# Altium schematic symbol library Eis_Lib.SchLib: 10 symbols
Pins are listed as number, name and electrical type; pins without a type are passive.

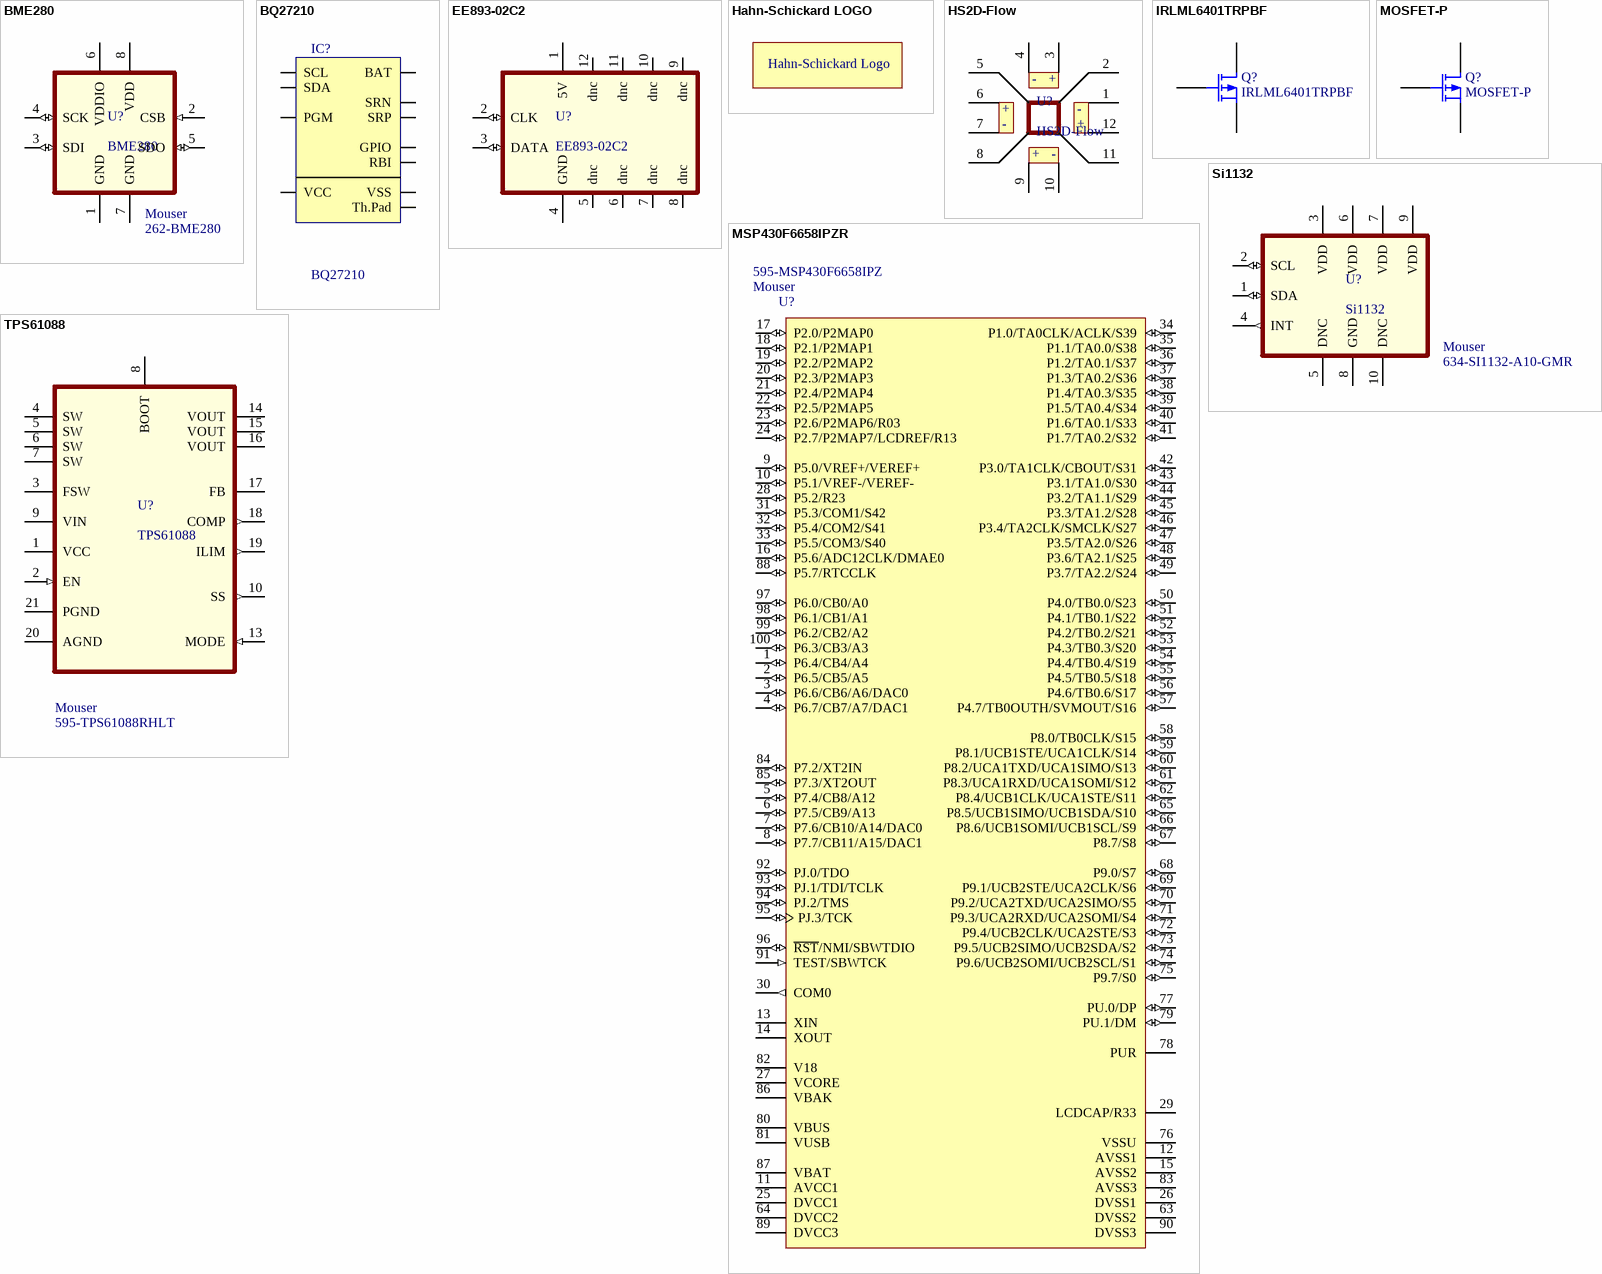
[diagram p0: symbols BME280 to TPS61088]

## BME280
designator U?  Supplier 1: Mouser  Supplier Part Number 1: 262-BME280
Bosch, Druck & Feuchte-Sensor, I2C / SPI
footprint BME280 (8 pin Druck/Feuchte/Temp)
pins: 1 GND (power), 2 CSB (in), 3 SDI (io), 4 SCK (io), 5 SDO (io), 6 VDDIO (power), 7 GND (power), 8 VDD (power)

## BQ27210
designator IC?
i-Ion AND Li-Pol BATTERY GAS GAUGE IC FOR PORTABLE APPLICATIONS; 08_Lieferanten_Nummer: 296-21511-1-ND; 07_Lieferant: Digi-Key; 05_Datasheet_Link_Lokal: Path and File; 10_Erstell_Datum: DD.MM.YYYY; 09_Ersteller: HSG Name; 02_Herstellerbezeichnung: ka; 03_Hersteller_Link: Link; 04_Datasheet_Link: Datasheet; 06 Footprint_Link_Lokal: Path and File
footprint TI-DRK-PVSON (RI DRK, 10+1-Leads, Body 4.15x3.15mm, Pitch 0.5mm)
pins: 1 RBI, 2 VCC (power), 3 VSS (power), 4 SCL, 5 SDA, 6 BAT, 7 SRN, 8 SRP, 9 GPIO, 10 PGM, 11 Th.Pad (power)

## EE893-02C2
designator U?
CO2-Sensor; I²C-Interface,
footprint EE893 (CO2-Sensor 22x45x15.3mm)
pins: 1 5V (power), 2 CLK (io), 3 DATA (io), 4 GND (power), 5 dnc, 6 dnc, 7 dnc, 8 dnc, 9 dnc, 10 dnc, 11 dnc, 12 dnc

## Hahn-Schickard LOGO
designator LOGO  (value not drawn)
Hahn-Schickard Logo als Footprint
footprint Hahn-Schickard-LOGO_klein
footprint Hahn-Schickard-LOGO_gross
text: Hahn-Schickard Logo

## HS2D-Flow
designator U?
2d Strömungssensor Hahn-Schickard
footprint Bond_Flow_12p (Chip in PCB-Tasche buendig einkleben (600µm tiefe Fräsung))
pins: 1 TPn-, 2 HZ_nw, 3 TPw+, 4 TPw-, 5 HZ_sw, 6 TPs+, 7 TPs-, 8 HZ_so, 9 TPo+, 10 TPo-, 11 HZ_no, 12 TPn+
text: -; +

## IRLML6401TRPBF
designator Q?
P-Channel MOSFET; Published: 8-Jun-2000; LatestRevisionDate: 17-Jul-2002; LatestRevisionNote: Re-released for DXP Platform.; PackageVersion: 1995/1996; PackageReference: E3; Publisher: Altium Limited
footprint SOT23_N (SOT23, 3-Leads, Body 2.9x1.3mm, Pitch 0.95mm, Lead Span 2.3mm, IPC Medium Density)
pins: 1 G, 2 S, 3 D

## MOSFET-P
designator Q?
P-Channel MOSFET; Published: 8-Jun-2000; LatestRevisionDate: 17-Jul-2002; LatestRevisionNote: Re-released for DXP Platform.; PackageVersion: 1995/1996; PackageReference: E3; Publisher: Altium Limited
footprint SOT223-4N (SOT223, 4-Leads, Body 6.5x3.5mm, Pitch 2.3mm, Lead Span 7mm, IPC Medium Density)
pins: 1 G, 2 D, 3 S

## MSP430F6658IPZR
designator U?  Supplier 1: Mouser  Supplier Part Number 1: 595-MSP430F6658IPZ
20 MHz Mixed Signal Microcontroller with 256 KB Flash, 16384 B SRAM and 74 GPIOs, -40 to 85 degC, 100-pin QFP (PZ), Green (RoHS & no Sb/Br); Manufacturer: Texas Instruments; PartNumber: MSP430F6638IPZR; ADC: 12-bit SAR; ADC Channels: 16; Brown Out Reset: Yes; DAC: 2; DMA: 3; Flash(KB): 256; Frequency(MHz): 20; GPIO: 74; Multiplier: 32x32; Real-Time Clock: Yes, with battery backup; SRAM(B): 16384; SubFamily: 6 Series with LCD; Timers - 16-bit: 4; USB: 1; DatasheetVersion: SLAS566C; PackageVersion: 4040149/B; PackageReference: PZ100; PackageDescription: 100-Pin Plastic Flat Pack, Body 14 x 14 mm, Pitch 0.5 mm; Comparators: Yes; Eco-Plan: Green (RoHS & no Sb/Br); SVS: Yes; Temp Sensor: Yes; USCI_A (UART/LIN/IrDA/SPI): 2; USCI_B (I2C & SPI): 2; Watchdog: Yes; Mounting Technology: Surface Mount; Code_JEDEC: MS-026; ComponentLink1Description: Manufacturer URL; ComponentLink1URL: http://www.ti.com/; ComponentLink2Description: Datasheet; ComponentLink2URL: http://www.ti.com/general/docs/lit/getliterature.tsp?genericPartNumber=MSP430F6638&fileType=pdf; ComponentLink3Description: Package Specification; ComponentLink3URL: http://www.ti.com/lit/ml/mtqf013a/mtqf013a.pdf
footprint TI-PZ100_N (QFP, 100-Leads, Body 14x14mm, Pitch 0.5mm, IPC Medium Density)
pins: 1 P6.4/CB4/A4 (io), 2 P6.5/CB5/A5 (io), 3 P6.6/CB6/A6/DAC0 (io), 4 P6.7/CB7/A7/DAC1 (io), 5 P7.4/CB8/A12 (io), 6 P7.5/CB9/A13 (io), 7 P7.6/CB10/A14/DAC0 (io), 8 P7.7/CB11/A15/DAC1 (io), 9 P5.0/VREF+/VEREF+ (io), 10 P5.1/VREF-/VEREF- (io), 11 AVCC1 (power) "Analog power supply", 12 AVSS1 (power) "Analog ground supply", 13 XIN "Input terminal for crystal oscillator XT1", 14 XOUT "Output terminal of crystal oscillator XT1", 15 AVSS2 (power) "Analog ground supply", 16 P5.6/ADC12CLK/DMAE0 (io), 17 P2.0/P2MAP0 (io), 18 P2.1/P2MAP1 (io), 19 P2.2/P2MAP2 (io), 20 P2.3/P2MAP3 (io), 21 P2.4/P2MAP4 (io), 22 P2.5/P2MAP5 (io), 23 P2.6/P2MAP6/R03 (io), 24 P2.7/P2MAP7/LCDREF/R13 (io), 25 DVCC1 (power) "Digital power supply", 26 DVSS1 (power) "Digital ground supply", 27 VCORE "Regulated core power supply (internal use only, no external current loading)", 28 P5.2/R23 (io), 29 LCDCAP/R33, 30 COM0 (out) "LCD common output COM0 for LCD backplane", 31 P5.3/COM1/S42 (io), 32 P5.4/COM2/S41 (io), 33 P5.5/COM3/S40 (io), 34 P1.0/TA0CLK/ACLK/S39 (io), 35 P1.1/TA0.0/S38 (io), 36 P1.2/TA0.1/S37 (io), 37 P1.3/TA0.2/S36 (io), 38 P1.4/TA0.3/S35 (io), 39 P1.5/TA0.4/S34 (io), 40 P1.6/TA0.1/S33 (io), 41 P1.7/TA0.2/S32 (io), 42 P3.0/TA1CLK/CBOUT/S31 (io), 43 P3.1/TA1.0/S30 (io), 44 P3.2/TA1.1/S29 (io), 45 P3.3/TA1.2/S28 (io), 46 P3.4/TA2CLK/SMCLK/S27 (io), 47 P3.5/TA2.0/S26 (io), 48 P3.6/TA2.1/S25 (io), 49 P3.7/TA2.2/S24 (io), 50 P4.0/TB0.0/S23 (io), 51 P4.1/TB0.1/S22 (io), 52 P4.2/TB0.2/S21 (io), 53 P4.3/TB0.3/S20 (io), 54 P4.4/TB0.4/S19 (io), 55 P4.5/TB0.5/S18 (io), 56 P4.6/TB0.6/S17 (io), 57 P4.7/TB0OUTH/SVMOUT/S16 (io), 58 P8.0/TB0CLK/S15 (io), 59 P8.1/UCB1STE/UCA1CLK/S14 (io), 60 P8.2/UCA1TXD/UCA1SIMO/S13 (io), 61 P8.3/UCA1RXD/UCA1SOMI/S12 (io), 62 P8.4/UCB1CLK/UCA1STE/S11 (io), 63 DVSS2 (power) "Digital ground supply", 64 DVCC2 (power) "Digital power supply", 65 P8.5/UCB1SIMO/UCB1SDA/S10 (io), 66 P8.6/UCB1SOMI/UCB1SCL/S9 (io), 67 P8.7/S8 (io), 68 P9.0/S7 (io), 69 P9.1/UCB2STE/UCA2CLK/S6 (io), 70 P9.2/UCA2TXD/UCA2SIMO/S5 (io), 71 P9.3/UCA2RXD/UCA2SOMI/S4 (io), 72 P9.4/UCB2CLK/UCA2STE/S3 (io), 73 P9.5/UCB2SIMO/UCB2SDA/S2 (io), 74 P9.6/UCB2SOMI/UCB2SCL/S1 (io), 75 P9.7/S0 (io), 76 VSSU (power) "USB PHY ground supply", 77 PU.0/DP (io), 78 PUR "USB pullup resistor pin (open drain). The voltage level at the PUR pin is used to PUR pin is used to invoke the default USB BSL. Recommended 1-Mohm resistor to ground.", 79 PU.1/DM (io), 80 VBUS (power) "USB LDO input (connect to USB power source)", 81 VUSB (power) "USB LDO output", 82 V18 "USB regulated power (internal use only, no external current loading)", 83 AVSS3 (power) "Analog ground supply", 84 P7.2/XT2IN (io), 85 P7.3/XT2OUT (io), 86 VBAK "Capacitor for backup subsystem. Do not load this pin externally. For capacitor values, see CBAK in Recommended Operating Conditions.", 87 VBAT (power) "Backup or secondary supply voltage. If backup voltage is not supplied, connect to DVCC externally.", 88 P5.7/RTCCLK (io), 89 DVCC3 (power) "Digital power supply", 90 DVSS3 (power) "Digital ground supply", 91 TEST/SBWTCK (in), 92 PJ.0/TDO (io), 93 PJ.1/TDI/TCLK (io), 94 PJ.2/TMS (io), 95 PJ.3/TCK (io), 96 ~{RST}/NMI/SBWTDIO (io), 97 P6.0/CB0/A0 (io), 98 P6.1/CB1/A1 (io), 99 P6.2/CB2/A2 (io), 100 P6.3/CB3/A3 (io)

## Si1132
designator U?  Supplier 1: Mouser  Supplier Part Number 1: 634-SI1132-A10-GMR
UV INDEX AND AMBIENT LIGHT SENSOR IC WITH I2C INTERFACE, QFN 2x2mm
footprint Si1132 (QFN, 2.5x2.5mm, 10polig - für Si1132-Sensor)
pins: 1 SDA (io), 2 SCL (io), 3 VDD (power), 4 INT (out), 5 DNC, 6 VDD (power), 7 VDD (power), 8 GND (power), 9 VDD (power), 10 DNC

## TPS61088
designator U?  Supplier 1: Mouser  Supplier Part Number 1: 595-TPS61088RHLT
Boost Schaltregler, 2,7V - 12 Uin / 4.5V-12.6V Uout / 3A / 1µA Shutdown
footprint RHL0020A (QFN, 20-Leads, Body 4.5x3.5mm, Pitch 0.5mm, Thermal Pad 3.05x2.05mm, TI Recommended)
pins: 1 VCC, 2 EN (in), 3 FSW, 4 SW, 5 SW, 6 SW, 7 SW, 8 BOOT, 9 VIN (power), 10 SS (out), 13 MODE (in), 14 VOUT (power), 15 VOUT (power), 16 VOUT (power), 17 FB, 18 COMP (out), 19 ILIM (out), 20 AGND (power), 21 PGND (power)